# EAGLE library part LT8613 (library Analog Devices)
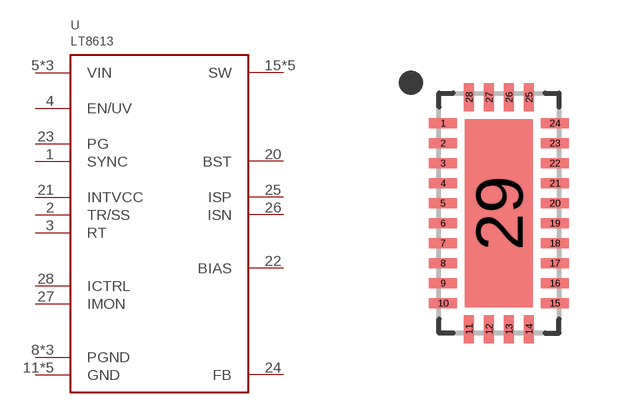
[diagram p36: symbol with the pads of QFN28_ASYM_2; footprint QFN28_ASYM_2]

Designator prefix U

## LT8613  [QFN28_ASYM_2]
1  SYNC
2  TR/SS
3  RT
4  EN/UV
5  VIN
6  VIN
7  VIN
8  PGND
9  PGND
10  PGND
11  GND
12  GND
13  GND
14  GND
15  SW
16  SW
17  SW
18  SW
19  SW
20  BST
21  INTVCC
22  BIAS
23  PG
24  FB
25  ISP
26  ISN
27  IMON
28  ICTRL
29  GND

## Footprint QFN28_ASYM_2 (pad centres in mm)
smd 0.7 x 0.25: 1 -1.4,2.25; 2 -1.4,1.75; 3 -1.4,1.25; 4 -1.4,0.75; 5 -1.4,0.25; 6 -1.4,-0.25; 7 -1.4,-0.75; 8 -1.4,-1.25; 9 -1.4,-1.75; 10 -1.4,-2.25; 15 1.4,-2.25; 16 1.4,-1.75; 17 1.4,-1.25; 18 1.4,-0.75; 19 1.4,-0.25; 20 1.4,0.25; 21 1.4,0.75; 22 1.4,1.25; 23 1.4,1.75; 24 1.4,2.25
smd 0.25 x 0.7: 11 -0.75,-2.9; 12 -0.25,-2.9; 13 0.25,-2.9; 14 0.75,-2.9; 25 0.75,2.9; 26 0.25,2.9; 27 -0.25,2.9; 28 -0.75,2.9
smd 1.7 x 4.7: 29 0,0